# EAGLE library part DIN5PIN (library DIN_5pin)
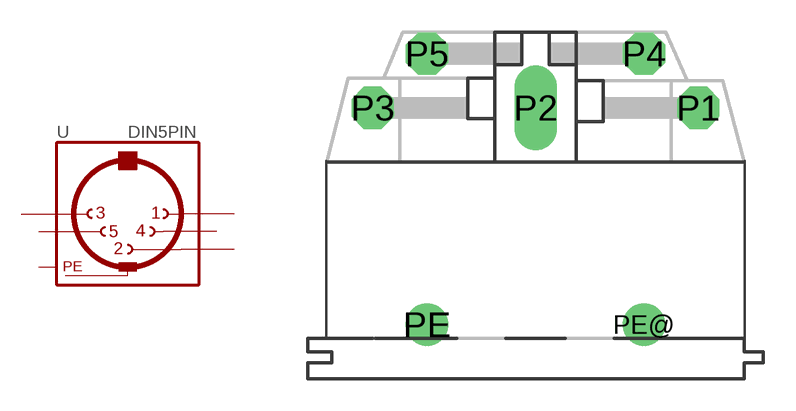
[diagram p0: symbol with the pads of MABPM5S; footprint MABPM5S]

Designator prefix -

## DIN5PIN  [MABPM5S]
P1  1  pas
P2  2  pas
P3  3  pas
P4  4  pas
P5  5  pas
PE  PE  pwr
PE@  PE  pwr

## Footprint MABPM5S (pad centres in mm)
Female CONNECTOR 5 pins with shield, horizontal (DIN 45327)
drill 1.321 octagon: P1 7.62,5.08; P3 -7.62,5.08; P4 5.08,7.62; P5 -5.08,7.62
drill 1.321 long: P2 0,5.08
drill 1.321: PE -5.08,-5.08; PE@ 5.08,-5.08